# Altium footprint library IC-SMD.PCBLIB: 298 footprints (part 16 of 19)
Each footprint in its own frame and in the unit in brackets; x right, y up, seen from the top. Pads: shape width x height; smd on the part's side, far side on the other; paste and mask are expansions set on the pad; w line width, h text height; cw(c..) or ccw(c..) is an arc to the next point about the centre after c.
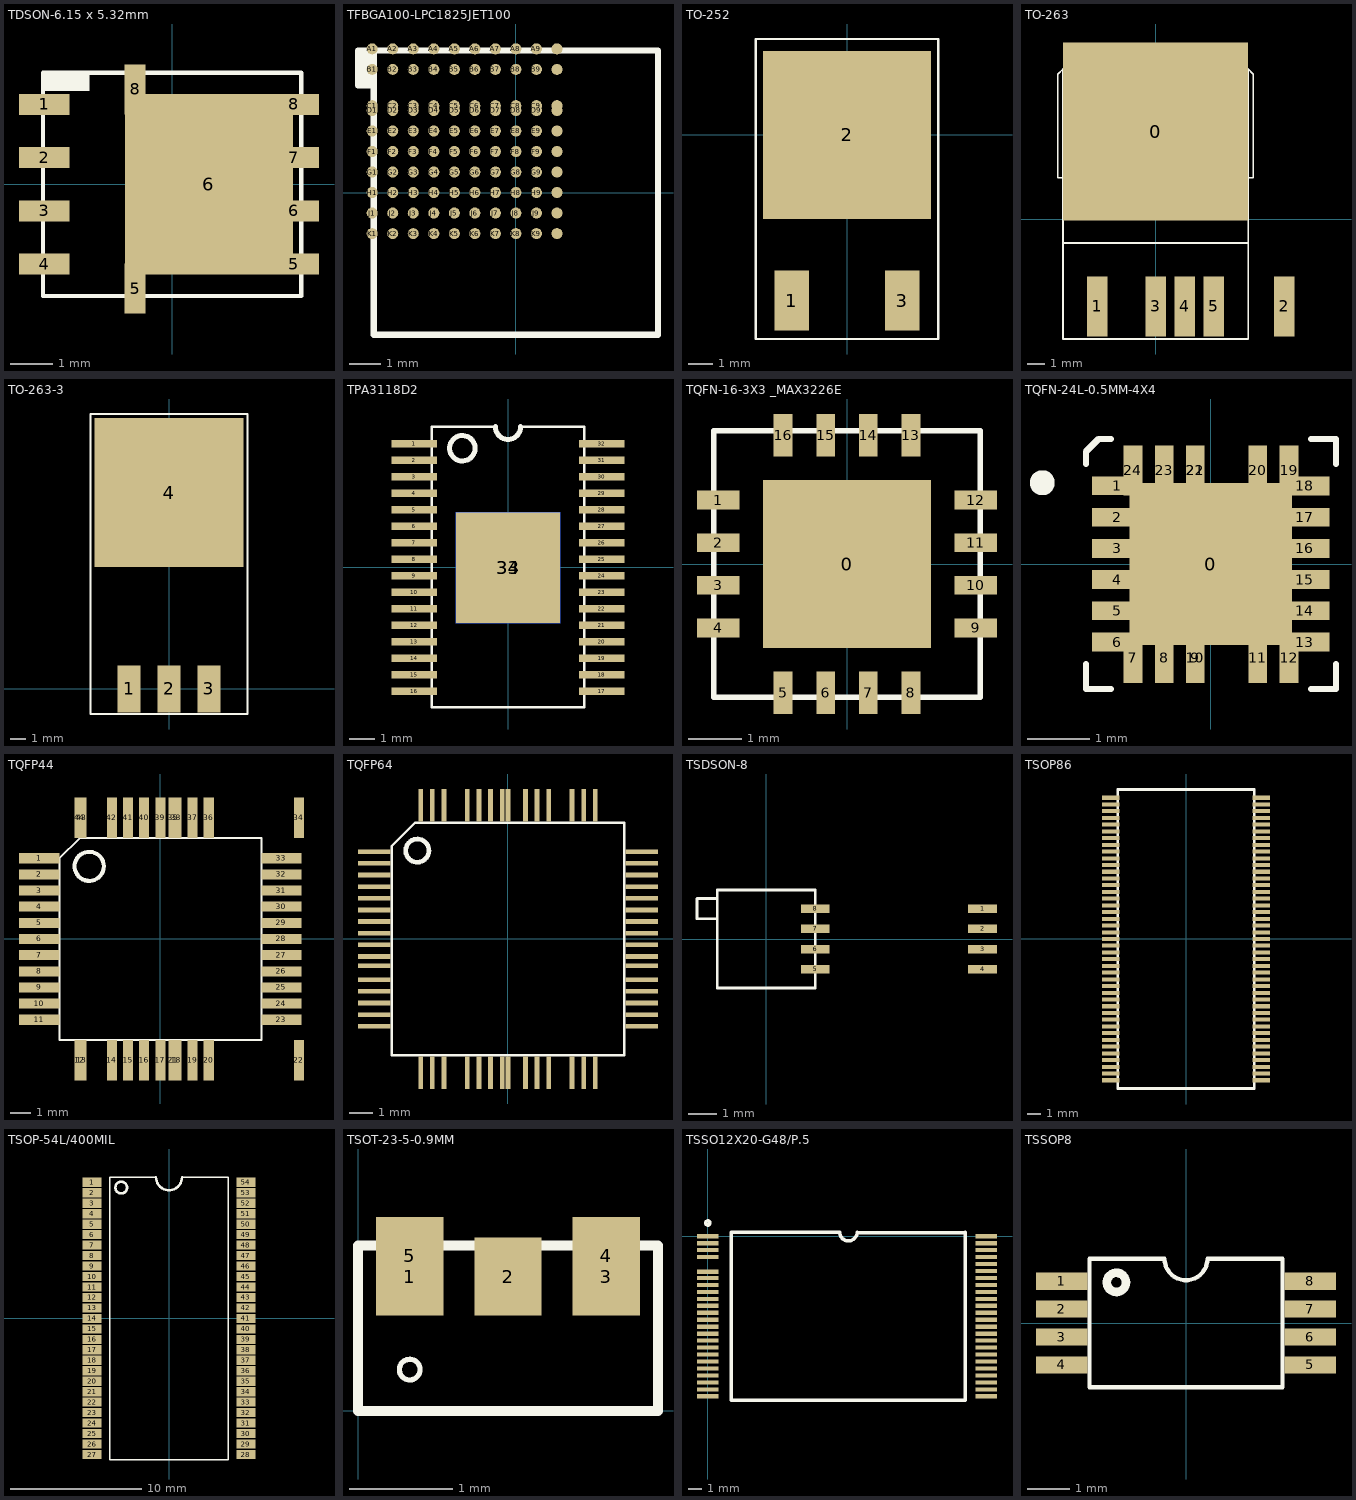
[diagram p15: the footprints below, top view; thin cyan lines are the x and y axes]

## TDSON-6.15 x 5.32mm [mm] "TDSON-6.15 x 5.32mm"
pads (11):
  rect 1.2x0.5 smd: 1(-3.05,1.905) 2(-3.05,0.635) 3(-3.05,-0.635) 4(-3.05,-1.905) 5(2.9,-1.905) 6(2.9,-0.635) 7(2.9,0.635) 8(2.9,1.905)
  rect 0.5x1.2 smd: 5(-0.88,-2.485) 8(-0.88,2.26)
  rect 4x4.3 smd: 6(0.875,0)
TopOverlay:
  rectangle: -3.075,2.225 -1.975,2.66
  lines w0.1: 3.075,-2.66 3.075,2.66 ; 3.075,-2.66 -3.075,-2.66 -3.075,2.66 3.075,2.66 ; 3.075,-2.66 3.075,2.66

## TFBGA100-LPC1825JET100 [mm] "TFBGA100-LPC1825JET100"
pads (100):
  round 0.35 smd mask+0.102: A1(-4.55,4.55) A2(-3.9,4.55) A3(-3.25,4.55) A4(-2.6,4.55) A5(-1.95,4.55) A6(-1.3,4.55) A7(-0.65,4.55) A8(0,4.55) A9(0.65,4.55) A10(1.3,4.55) B1(-4.55,3.9) B2(-3.9,3.9) B3(-3.25,3.9) B4(-2.6,3.9) B5(-1.95,3.9) B6(-1.3,3.9) B7(-0.65,3.9) B8(0,3.9) B9(0.65,3.9) B10(1.3,3.9) C1(-4.55,2.75) C2(-3.9,2.75) C3(-3.25,2.75) C4(-2.6,2.75) C5(-1.95,2.75) C6(-1.3,2.75) C7(-0.65,2.75) C8(0,2.75) C9(0.65,2.75) C10(1.3,2.75) D1(-4.55,2.6) D2(-3.9,2.6) D3(-3.25,2.6) D4(-2.6,2.6) D5(-1.95,2.6) D6(-1.3,2.6) D7(-0.65,2.6) D8(0,2.6) D9(0.65,2.6) D10(1.3,2.6) E1(-4.55,1.95) E2(-3.9,1.95) E3(-3.25,1.95) E4(-2.6,1.95) E5(-1.95,1.95) E6(-1.3,1.95) E7(-0.65,1.95) E8(0,1.95) E9(0.65,1.95) E10(1.3,1.95) F1(-4.55,1.3) F2(-3.9,1.3) F3(-3.25,1.3) F4(-2.6,1.3) F5(-1.95,1.3) F6(-1.3,1.3) F7(-0.65,1.3) F8(0,1.3) F9(0.65,1.3) F10(1.3,1.3) G1(-4.55,0.65) G2(-3.9,0.65) G3(-3.25,0.65) G4(-2.6,0.65) G5(-1.95,0.65) G6(-1.3,0.65) G7(-0.65,0.65) G8(0,0.65) G9(0.65,0.65) G10(1.3,0.65) H1(-4.55,0) H2(-3.9,0) H3(-3.25,0) H4(-2.6,0) H5(-1.95,0) H6(-1.3,0) H7(-0.65,0) H8(0,0) H9(0.65,0) H10(1.3,0) J1(-4.55,-0.65) J2(-3.9,-0.65) J3(-3.25,-0.65) J4(-2.6,-0.65) J5(-1.95,-0.65) J6(-1.3,-0.65) J7(-0.65,-0.65) J8(0,-0.65) J9(0.65,-0.65) J10(1.3,-0.65) K1(-4.55,-1.3) K2(-3.9,-1.3) K3(-3.25,-1.3) K4(-2.6,-1.3) K5(-1.95,-1.3) K6(-1.3,-1.3) K7(-0.65,-1.3) K8(0,-1.3) K9(0.65,-1.3) K10(1.3,-1.3)
TopOverlay:
  rectangle: -4.83,3.4 -4.53,4.5
  rectangle: -5,3.4 -4.7,4.5
  lines w0.2: -4.7,3.4 -5,3.4 -5,4.5 -4.7,4.5 ; -4.53,3.4 -4.83,3.4 -4.83,4.5 -4.53,4.5 ; -4.5,-4.5 4.5,-4.5 4.5,4.5 -4.5,4.5 -4.5,-4.5

## TO-252 [mm]
pads (3):
  rect 1.45x2.5 smd: 1(-2.3,-6.9) 3(2.3,-6.9)
  rect 7x7 smd: 2(0,0)
TopOverlay:
  lines w0.1: -3.8,-8.5 -3.8,4 3.8,4 3.8,-8.5 -3.8,-8.5

## TO-263 [mm]
pads (6):
  rect 10.8x10.4 smd: 0(0,5.1)
  rect 1.2x3.5 smd: 1(-3.4,-5.1) 2(7.5,-5.1) 3(0,-5.1) 4(1.7,-5.1) 5(3.4,-5.1)
TopOverlay:
  lines w0.1: -5.4,-1.4 5.4,-1.4 ; -5.4,2.4 -5.7,2.4 -5.7,8.45 -5.4,8.75 ; 5.4,2.4 5.7,2.4 5.7,8.45 5.4,8.75 ; -5.4,8.75 -5.4,-7 5.4,-7 5.4,8.75 ; -5.4,8.75 5.4,8.75

## TO-263-3 [mm]
pads (4):
  rect 1.45x3 smd: 1(-2.54,0) 2(0,0) 3(2.54,0)
  rect 9.5x9.5 smd: 4(0,12.5)
TopOverlay:
  lines w0.1: -5,-1.6 -5,17.5 5,17.5 5,-1.6 -5,-1.6

## TPA3118D2 [mm]
pads (34):
  rect 1.8x0.3 smd: 1(-3.7,4.875) 2(-3.7,4.225) 3(-3.7,3.575) 4(-3.7,2.925) 5(-3.7,2.275) 6(-3.7,1.625) 7(-3.7,0.975) 8(-3.7,0.325) 9(-3.7,-0.325) 10(-3.7,-0.975) 11(-3.7,-1.625) 12(-3.7,-2.275) 13(-3.7,-2.925) 14(-3.7,-3.575) 15(-3.7,-4.225) 16(-3.7,-4.875) 17(3.7,-4.875) 18(3.7,-4.225) 19(3.7,-3.575) 20(3.7,-2.925) 21(3.7,-2.275) 22(3.7,-1.625) 23(3.7,-0.975) 24(3.7,-0.325) 25(3.7,0.325) 26(3.7,0.975) 27(3.7,1.625) 28(3.7,2.275) 29(3.7,2.925) 30(3.7,3.575) 31(3.7,4.225) 32(3.7,4.875)
  rect 4.11x4.36 smd: 33(0,-0.01)
  rect 4.11x4.36 smd far side: 34(0,-0.01)
TopOverlay:
  circle w0.2: c-1.8,4.7 r0.5
  lines w0.1: -0.5,5.55 -3,5.55 -3,-5.5 3,-5.5 3,5.55 0.5,5.55
  lines w0.2: -0.5,5.55 ccw(c0,5.55) 0.5,5.55

## TQFN-16-3X3 _MAX3226E [mm] "TQFN-16-3X3 _MAX3226E"
pads (17):
  rect 3.15x3.15 smd mask+0.1: 0(0,0)
  rect 0.8x0.35 smd: 1(-2.415,1.2) 2(-2.415,0.4) 3(-2.415,-0.4) 4(-2.415,-1.2) 9(2.415,-1.2) 10(2.415,-0.4) 11(2.415,0.4) 12(2.415,1.2)
  rect 0.35x0.8 smd: 5(-1.2,-2.415) 6(-0.4,-2.415) 7(0.4,-2.415) 8(1.2,-2.415) 13(1.2,2.415) 14(0.4,2.415) 15(-0.4,2.415) 16(-1.2,2.415)
TopOverlay:
  lines w0.1: -2.5,-2.5 -2.5,2.5 2.5,2.5 2.5,-2.5 -2.5,-2.5

## TQFN-24L-0.5MM-4X4 [mm] "TQFN-24L-0.5MM-4X4"
pads (25):
  rect 2.6x2.6 smd: 0(0,0)
  rect 0.8x0.3 smd: 1(-1.5,1.25) 2(-1.5,0.75) 3(-1.5,0.25) 4(-1.5,-0.25) 5(-1.5,-0.75) 6(-1.5,-1.25) 13(1.5,-1.25) 14(1.5,-0.75) 15(1.5,-0.25) 16(1.5,0.25) 17(1.5,0.75) 18(1.5,1.25)
  rect 0.3x0.8 smd: 7(-1.25,-1.5) 8(-0.75,-1.5) 9(-0.25,-1.5) 10(-0.25,-1.5) 11(0.75,-1.5) 12(1.25,-1.5) 19(1.25,1.5) 20(0.75,1.5) 21(-0.25,1.5) 22(-0.25,1.5) 23(-0.75,1.5) 24(-1.25,1.5)
TopOverlay:
  circle w0.2: c-2.7,1.3 r0.1
  lines w0.1: -2,-1.6 -2,-2 -1.6,-2 ; -2,1.6 -2,1.8 -1.8,2 -1.6,2 ; 1.6,-2 2,-2 2,-1.6 ; 1.6,2 2,2 2,1.6

## TQFP44 [mm]
pads (44):
  rect 2x0.5 smd: 1(-6,4) 2(-6,3.2) 3(-6,2.4) 4(-6,1.6) 5(-6,0.8) 6(-6,0) 7(-6,-0.8) 8(-6,-1.6) 9(-6,-2.4) 10(-6,-3.2) 11(-6,-4) 23(6,-4) 24(6,-3.2) 25(6,-2.4) 26(6,-1.6) 27(6,-0.8) 28(6,0) 29(6,0.8) 30(6,1.6) 31(6,2.4) 32(6,3.2) 33(6,4)
  rect 0.5x2 smd: 12(-4,-6) 13(-3.9,-6) 14(-2.4,-6) 15(-1.6,-6) 16(-0.8,-6) 17(0,-6) 18(0.8,-6) 19(1.6,-6) 20(2.4,-6) 21(0.65,-6) 22(6.86,-6) 34(6.86,6) 35(0.65,6) 36(2.4,6) 37(1.6,6) 38(0.8,6) 39(0,6) 40(-0.8,6) 41(-1.6,6) 42(-2.4,6) 43(-3.9,6) 44(-4,6)
TopOverlay:
  circle w0.2: c-3.521,3.6 r0.721
  lines w0.1: -5,-5 -5,4 -4,5 5,5 5,-5 -5,-5

## TQFP64 [mm]
pads (64):
  rect 1.4x0.2 smd: 1(-5.75,3.75) 2(-5.75,3.25) 3(-5.75,2.75) 4(-5.75,2.25) 5(-5.75,1.75) 6(-5.75,1.25) 7(-5.75,0.75) 8(-5.75,0.25) 9(-5.75,-0.25) 10(-5.75,-0.75) 11(-5.75,-1.15) 12(-5.75,-1.75) 13(-5.75,-2.25) 14(-5.75,-2.75) 15(-5.75,-3.25) 16(-5.75,-3.75) 33(5.75,-3.75) 34(5.75,-3.25) 35(5.75,-2.75) 36(5.75,-2.25) 37(5.75,-1.75) 38(5.75,-1.15) 39(5.75,-0.75) 40(5.75,-0.25) 41(5.75,0.25) 42(5.75,0.75) 43(5.75,1.25) 44(5.75,1.75) 45(5.75,2.25) 46(5.75,2.75) 47(5.75,3.25) 48(5.75,3.75)
  rect 0.2x1.4 smd: 17(-3.75,-5.75) 18(-3.25,-5.75) 19(-2.75,-5.75) 20(-3.25,-5.75) 21(-1.75,-5.75) 22(-1.25,-5.75) 23(-0.75,-5.75) 24(-0.25,-5.75) 25(-0.25,-5.75) 26(0.75,-5.75) 27(1.25,-5.75) 28(1.75,-5.75) 29(0,-5.75) 30(2.75,-5.75) 31(3.25,-5.75) 32(3.75,-5.75) 49(3.75,5.75) 50(3.25,5.75) 51(2.75,5.75) 52(0,5.75) 53(1.75,5.75) 54(1.25,5.75) 55(0.75,5.75) 56(-0.25,5.75) 57(-0.25,5.75) 58(-0.75,5.75) 59(-1.25,5.75) 60(-1.75,5.75) 61(-3.25,5.75) 62(-2.75,5.75) 63(-3.25,5.75) 64(-3.75,5.75)
TopOverlay:
  circle w0.2: c-3.9,3.8 r0.5
  lines w0.1: -5,-5 -5,4 -4,5 5,5 5,-5 -5,-5

## TSDSON-8 [mm]
pads (8):
  rect 1x0.3 smd: 1(7.5,1.05) 2(7.5,0.35) 3(7.5,-0.35) 4(7.5,-1.05) 5(1.7,-1.05) 6(1.7,-0.35) 7(1.7,0.35) 8(1.7,1.05)
TopOverlay:
  lines w0.1: -1.7,0.7 -2.4,0.7 -2.4,1.4 -1.7,1.4 ; -1.7,-1.7 1.7,-1.7 1.7,1.7 -1.7,1.7 -1.7,-1.7

## TSOP86 [mm] "TSOP86"
pads (86):
  rect 1.3x0.3 smd: 1(-5.6,10.5) 2(-5.6,10) 3(-5.6,9.5) 4(-5.6,9) 5(-5.6,8.5) 6(-5.6,8) 7(-5.6,7.5) 8(-5.6,7) 9(-5.6,6.5) 10(-5.6,6) 11(-5.6,5.5) 12(-5.6,5) 13(-5.6,4.5) 14(-5.6,4) 15(-5.6,3.5) 16(-5.6,3) 17(-5.6,2.5) 18(-5.6,2) 19(-5.6,1.5) 20(-5.6,1) 21(-5.6,0.5) 22(-5.6,0) 23(-5.6,-0.5) 24(-5.6,-1) 25(-5.6,-1.5) 26(-5.6,-2) 27(-5.6,-2.5) 28(-5.6,-3) 29(-5.6,-3.5) 30(-5.6,-4) 31(-5.6,-4.5) 32(-5.6,-5) 33(-5.6,-5.5) 34(-5.6,-6) 35(-5.6,-6.5) 36(-5.6,-7) 37(-5.6,-7.5) 38(-5.6,-8) 39(-5.6,-8.5) 40(-5.6,-9) 41(-5.6,-9.5) 42(-5.6,-10) 43(-5.6,-10.5) 44(5.6,-10.5) 45(5.6,-10) 46(5.6,-9.5) 47(5.6,-9) 48(5.6,-8.5) 49(5.6,-8) 50(5.6,-7.5) 51(5.6,-7) 52(5.6,-6.5) 53(5.6,-6) 54(5.6,-5.5) 55(5.6,-5) 56(5.6,-4.5) 57(5.6,-4) 58(5.6,-3.5) 59(5.6,-3) 60(5.6,-2.5) 61(5.6,-2) 62(5.6,-1.5) 63(5.6,-1) 64(5.6,-0.5) 65(5.6,0) 66(5.6,0.5) 67(5.6,1) 68(5.6,1.5) 69(5.6,2) 70(5.6,2.5) 71(5.6,3) 72(5.6,3.5) 73(5.6,4) 74(5.6,4.5) 75(5.6,5) 76(5.6,5.5) 77(5.6,6) 78(5.6,6.5) 79(5.6,7) 80(5.6,7.5) 81(5.6,8) 82(5.6,8.5) 83(5.6,9) 84(5.6,9.5) 85(5.6,10) 86(5.6,10.5)
TopOverlay:
  lines w0.2: -5.08,-11.11 5.08,-11.11 5.08,11.11 -5.08,11.11 -5.08,-11.11

## TSOP-54L/400MIL [mm]
pads (54):
  rect 1.45x0.7 smd: 1(-5.88,10.4) 2(-5.88,9.6) 3(-5.88,8.8) 4(-5.88,8) 5(-5.88,7.2) 6(-5.88,6.4) 7(-5.88,5.6) 8(-5.88,4.8) 9(-5.88,4) 10(-5.88,3.2) 11(-5.88,2.4) 12(-5.88,1.6) 13(-5.88,0.8) 14(-5.88,0) 15(-5.88,-0.8) 16(-5.88,-1.6) 17(-5.88,-2.4) 18(-5.88,-3.2) 19(-5.88,-4) 20(-5.88,-4.8) 21(-5.88,-5.6) 22(-5.88,-6.4) 23(-5.88,-7.2) 24(-5.88,-8) 25(-5.88,-8.8) 26(-5.88,-9.6) 27(-5.88,-10.4) 28(5.88,-10.4) 29(5.88,-9.6) 30(5.88,-8.8) 31(5.88,-8) 32(5.88,-7.2) 33(5.88,-6.4) 34(5.88,-5.6) 35(5.88,-4.8) 36(5.88,-4) 37(5.88,-3.2) 38(5.88,-2.4) 39(5.88,-1.6) 40(5.88,-0.8) 41(5.88,0) 42(5.88,0.8) 43(5.88,1.6) 44(5.88,2.4) 45(5.88,3.2) 46(5.88,4) 47(5.88,4.8) 48(5.88,5.6) 49(5.88,6.4) 50(5.88,7.2) 51(5.88,8) 52(5.88,8.8) 53(5.88,9.6) 54(5.88,10.4)
TopOverlay:
  circle w0.2: c-3.647,10 r0.447
  lines w0.1: -1,10.8 -4.545,10.8 -4.545,-10.8 4.545,-10.8 4.545,10.8 1,10.8
  lines w0.2: -1,10.8 ccw(c0,10.8) 1,10.8

## TSOT-23-5-0.9MM [mm] "TSOT-23-5-0.9MM"
pads (5):
  rect 0.65x0.75 smd: 1(0.5,1.3) 2(1.45,1.3) 3(2.4,1.3) 4(2.4,1.5) 5(0.5,1.5)
TopOverlay:
  circle w0.05: c0.5,0.4 r0.1
  lines w0.1: 0,0 2.9,0 2.9,1.6 0,1.6 0,0

## TSSO12X20-G48/P.5 [mm]
pads (48):
  rect 1.55x0.3 smd: 1(0,0) 2(0,-0.5) 3(0,-1) 4(0,-1.5) 5(0,-1.5) 6(0,-2.55) 7(0,-3) 8(0,-3.5) 9(0,-4) 10(0,-4.5) 11(0,-5) 12(0,-5.5) 13(0,-6) 14(0,-6.5) 15(0,-7) 16(0,-7.5) 17(0,-8) 18(0,-8.5) 19(0,-9) 20(0,-9.5) 21(0,-10) 22(0,-10.5) 23(0,-11) 24(0,-11.5) 25(20,-11.5) 26(20,-11) 27(20,-10.5) 28(20,-10) 29(20,-9.5) 30(20,-9) 31(20,-8.5) 32(20,-8) 33(20,-7.5) 34(20,-7) 35(20,-6.5) 36(20,-6) 37(20,-5.5) 38(20,-5) 39(20,-4.5) 40(20,-4) 41(20,-3.5) 42(20,-3) 43(20,-2.5) 44(20,-2) 45(20,-1.5) 46(20,-1) 47(20,-0.5) 48(20,0)
TopOverlay:
  circle w0.25: c0,0.95 r0.15
  lines w0.25: 10.735,0.25 18.5,0.25 ; 10.735,0.3 cw(c10.1,0.3) 9.465,0.3 1.7,0.3 1.7,-11.8 18.5,-11.8 18.5,0.3

## TSSOP8 [mm]
pads (8):
  rect 1.2x0.4 smd: 1(-2.9,0.975) 2(-2.9,0.325) 3(-2.9,-0.325) 4(-2.9,-0.975) 5(2.9,-0.975) 6(2.9,-0.325) 7(2.9,0.325) 8(2.9,0.975)
TopOverlay:
  circle w0.2: c-1.624,0.95 r0.224
  lines w0.1: -2.25,-1.5 -2.25,1.5 -0.5,1.5 ccw(c0,1.5) 0.5,1.5 2.25,1.5 2.25,-1.5 -2.25,-1.5